# Altium integrated library Timer.IntLib: 1 symbol
Pins are listed as number, name and electrical type; pins without a type are passive.

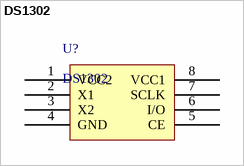
[diagram p0: symbol DS1302]

## DS1302
designator U?
SPI Real time clock IC
footprint SO-8_3.9x4.9mm_P1.27mm (SOIC, 8-Leads, Body 4.9x3.90mm, Pitch 1.27mm, IPC Medium Density)
pins: 1 VCC2, 2 X1, 3 X2, 4 GND, 5 CE, 6 I/O, 7 SCLK, 8 VCC1